# Altium schematic symbol library R E24 0603 Yageo RC Series.SchLib: 174 symbols (part 3 of 3)
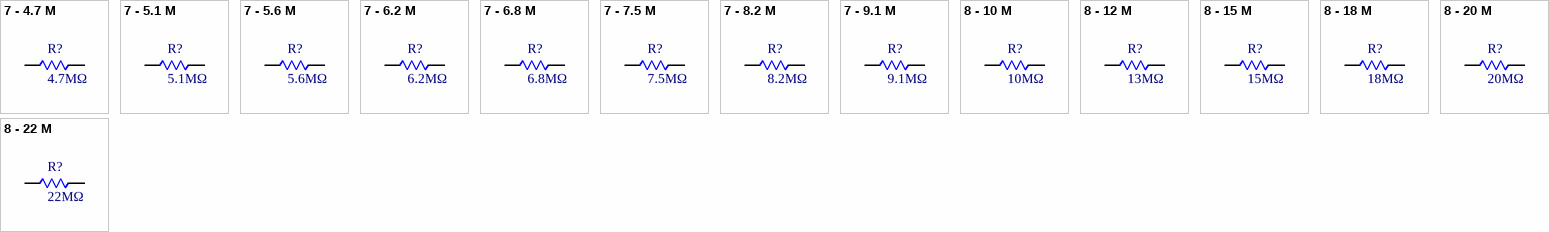
[diagram p6: symbols 7 - 4.7 M to 8 - 22 M]

## 8 - 15 M
designator R?, comment 15MΩ
RES SMD 15M OHM 5% 1/10W 0603; MFG PN: RC0603JR-0715ML; MFG: Yageo; Power: 0.1W; Temp Coeff: ±100ppm/°C; Op Temp: -55°C ~ 155°C; Current (max): 81.6 uA; Voltage (max): 1225 V; Resistance: 15 MOhms; Digi-Key PN: 13-RC0603JR-0715MLCT-ND; Height: 0.55mm; Package: 0603; Composition: Thick Film; Tolerance: 5%; Series: RC; Mounting Type: Surface Mount; ComponentLink2Description: Datasheet; ComponentLink2URL: https://www.yageo.com/upload/media/product/productsearch/datasheet/rchip/PYu-RC_Group_51_RoHS_L_11.pdf
footprint 0603 - R (from Yageo)
pins: 1, 2

## 8 - 18 M
designator R?, comment 18MΩ
RES SMD 18M OHM 5% 1/10W 0603; MFG PN: RC0603JR-0718ML; MFG: Yageo; Power: 0.1W; Temp Coeff: ±100ppm/°C; Op Temp: -55°C ~ 155°C; Current (max): 74.5 uA; Voltage (max): 1342 V; Resistance: 18 MOhms; Digi-Key PN: 13-RC0603JR-0718MLCT-ND; Height: 0.55mm; Package: 0603; Composition: Thick Film; Tolerance: 5%; Series: RC; Mounting Type: Surface Mount; ComponentLink2Description: Datasheet; ComponentLink2URL: https://www.yageo.com/upload/media/product/productsearch/datasheet/rchip/PYu-RC_Group_51_RoHS_L_11.pdf
footprint 0603 - R (from Yageo)
pins: 1, 2

## 8 - 20 M
designator R?, comment 20MΩ
RES SMD 20M OHM 5% 1/10W 0603; MFG PN: RC0603JR-0720ML; MFG: Yageo; Power: 0.1W; Temp Coeff: ±100ppm/°C; Op Temp: -55°C ~ 155°C; Current (max): 70.7 uA; Voltage (max): 1414 V; Resistance: 20 MOhms; Digi-Key PN: 13-RC0603JR-0720MLCT-ND; Height: 0.55mm; Package: 0603; Composition: Thick Film; Tolerance: 5%; Series: RC; Mounting Type: Surface Mount; ComponentLink2Description: Datasheet; ComponentLink2URL: https://www.yageo.com/upload/media/product/productsearch/datasheet/rchip/PYu-RC_Group_51_RoHS_L_11.pdf
footprint 0603 - R (from Yageo)
pins: 1, 2

## 8 - 22 M
designator R?, comment 22MΩ
RES SMD 22M OHM 5% 1/10W 0603; MFG PN: RC0603JR-0722ML; MFG: Yageo; Power: 0.1W; Temp Coeff: ±100ppm/°C; Op Temp: -55°C ~ 155°C; Current (max): 67.4 uA; Voltage (max): 1483 V; Resistance: 22 MOhms; Digi-Key PN: 13-RC0603JR-0722MLCT-ND; Height: 0.55mm; Package: 0603; Composition: Thick Film; Tolerance: 5%; Series: RC; Mounting Type: Surface Mount; ComponentLink2Description: Datasheet; ComponentLink2URL: https://www.yageo.com/upload/media/product/productsearch/datasheet/rchip/PYu-RC_Group_51_RoHS_L_11.pdf
footprint 0603 - R (from Yageo)
pins: 1, 2